# EAGLE library part MP05063 (library golledge)
SAW Filter Example 404.0MHz Datasheet and Purchasing Information <http://www.golledge.com/docs/products/saw/gsrf_list.htm?src=eagle>
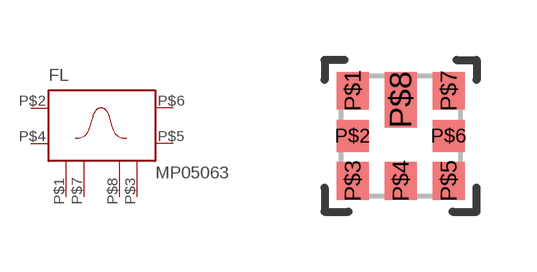
[diagram p3: symbol with the pads of SAW3X3P8; footprint SAW3X3P8]

Designator prefix FL

## MP05063 (HEIGHT: 1.0)  [SAW3X3P8]
P$1  CASE  pas
P$2  IN  pas
P$3  CASE  pas
P$4  INBAR_OR_GND  pas
P$5  OUTBAR_OR_GND  pas
P$6  OUT  pas
P$7  P$1  pas
P$8  P$2  pas

## Footprint SAW3X3P8 (pad centres in mm)
3.0 x 3.0 mm square SAW package with 8 pads MP05063 used as design source.
smd 0.8 x 0.94: P$1 -1.2,1.13; P$3 -1.2,-1.13; P$4 0,-1.13; P$5 1.2,-1.13; P$7 1.2,1.13
smd 0.8 x 0.8: P$2 -1.2,0; P$6 1.2,0
smd 0.8 x 1.4: P$8 0,0.9